# Altium schematic symbol library Logic_Programmable.SchLib: 9 symbols
Pins are listed as number, name and electrical type; pins without a type are passive.

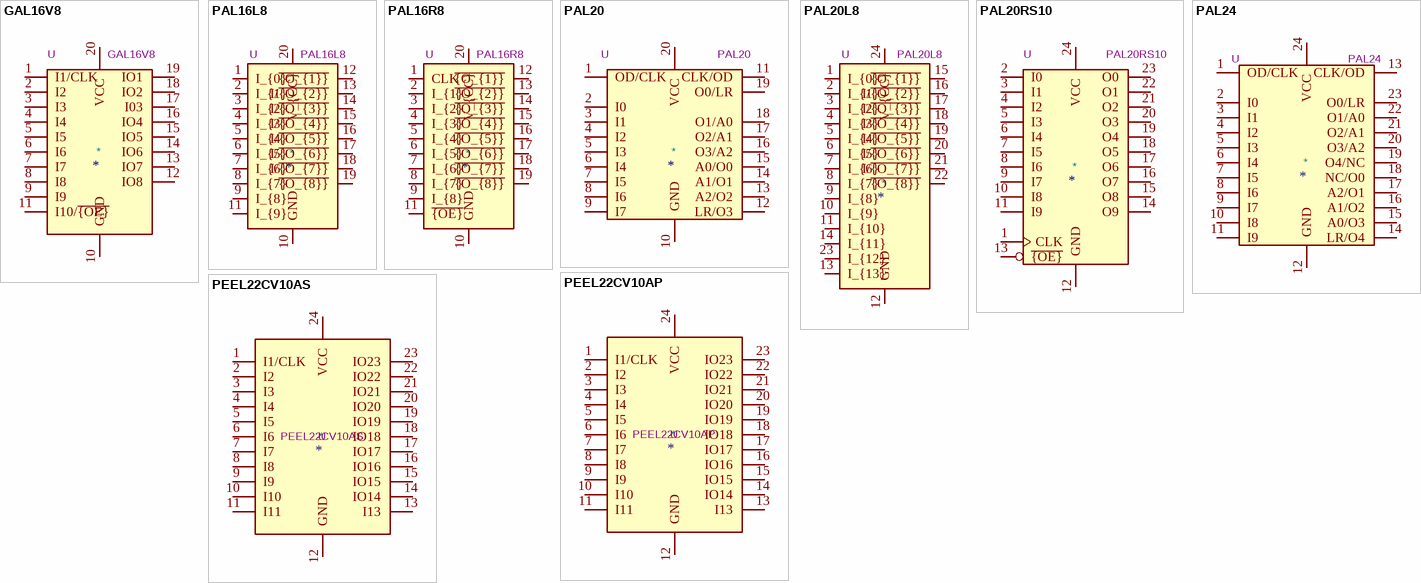
[diagram p0: symbols GAL16V8 to PEEL22CV10AS]

## GAL16V8
designator *  value GAL16V8  Reference: U
Programmable Logic Array, DIP-20/SOIC-20/PLCC-20; ki_keywords: GAL PLD 16V8; ki_fp_filters: DIP* PDIP* SOIC* SO* PLCC*; Description_: Programmable Logic Array, DIP-20/SOIC-20/PLCC-20
pins: 1 I1/CLK, 2 I2, 3 I3, 4 I4, 5 I5, 6 I6, 7 I7, 8 I8, 9 I9, 10 GND, 11 I10/~{{OE}}, 12 IO8, 13 IO7, 14 IO6, 15 IO5, 16 IO4, 17 I03, 18 IO2, 19 IO1, 20 VCC

## PAL16L8
designator *  value PAL16L8  Reference: U
Programmable Array Logic (PAL), Active-Low Combinatorial, DIP-20 / PLCC-20; ki_keywords: Obsolete Monolithic-Memories AMD PLD 16L8 PAL16L8-7PC PAL16L8-7JC PAL16L8D/2PC PAL16L8B-2CN PAL16L8ACN; ki_fp_filters: DIP*W7.62mm* *PLCC*; Datasheet: https://docs.rs-online.com/53eb/0900766b8002a354.pdf; Description_: Programmable Array Logic (PAL), Active-Low Combinatorial, DIP-20 / PLCC-20
pins: 1 I_{0}, 2 I_{1}, 3 I_{2}, 4 I_{3}, 5 I_{4}, 6 I_{5}, 7 I_{6}, 8 I_{7}, 9 I_{8}, 10 GND, 11 I_{9}, 12 ~{{O_{1}}}, 13 I/~{{O_{2}}}, 14 I/~{{O_{3}}}, 15 I/~{{O_{4}}}, 16 I/~{{O_{5}}}, 17 I/~{{O_{6}}}, 18 I/~{{O_{7}}}, 19 ~{{O_{8}}}, 20 V_{CC}

## PAL16R8
designator *  value PAL16R8  Reference: U
Programmable Array Logic (PAL), 8 Registered Outputs, DIP-20 / PLCC-20; ki_keywords: Obsolete Monolithic-Memories AMD PLD 16R8 PAL16R8-7PC PAL16R8-7JC PAL16R8D/2PC PAL16R8B-2CN PAL16R8ACN; ki_fp_filters: DIP*W7.62mm* *PLCC*; Datasheet: https://docs.rs-online.com/53eb/0900766b8002a354.pdf; Description_: Programmable Array Logic (PAL), 8 Registered Outputs, DIP-20 / PLCC-20
pins: 1 CLK, 2 I_{1}, 3 I_{2}, 4 I_{3}, 5 I_{4}, 6 I_{5}, 7 I_{6}, 8 I_{7}, 9 I_{8}, 10 GND, 11 ~{{OE}}, 12 ~{{O_{1}}}, 13 ~{{O_{2}}}, 14 ~{{O_{3}}}, 15 ~{{O_{4}}}, 16 ~{{O_{5}}}, 17 ~{{O_{6}}}, 18 ~{{O_{7}}}, 19 ~{{O_{8}}}, 20 V_{CC}

## PAL20
designator *  value PAL20  Reference: U
generic 20-pin Programmable Array Logic (PAL) device; ki_keywords: logic programmable PAL; Datasheet: ~; Description_: generic 20-pin Programmable Array Logic (PAL) device
pins: 1 OD/CLK, 2 I0, 3 I1, 4 I2, 5 I3, 6 I4, 7 I5, 8 I6, 9 I7, 10 GND, 11 CLK/OD, 12 LR/O3, 13 A2/O2, 14 A1/O1, 15 A0/O0, 16 O3/A2, 17 O2/A1, 18 O1/A0, 19 O0/LR, 20 VCC

## PAL20L8
designator *  value PAL20L8  Reference: U
Programmable Array Logic (PAL), Active-Low Combinatorial, DIP-24; ki_keywords: Obsolete Monolithic-Memories AMD PLD 20L8 PAL20L8-5PC PAL20L8-7PC PAL20L8-10PC PAL20L8-10/2PC PAL20L8B-2CNS; ki_fp_filters: DIP*W7.62mm*; Footprint: Package_DIP:DIP-24_W7.62mm; Datasheet: https://rocelec.widen.net/view/pdf/pn0qtf2whd/VANTS00076-1.pdf; Description_: Programmable Array Logic (PAL), Active-Low Combinatorial, DIP-24
pins: 1 I_{0}, 2 I_{1}, 3 I_{2}, 4 I_{3}, 5 I_{4}, 6 I_{5}, 7 I_{6}, 8 I_{7}, 9 I_{8}, 10 I_{9}, 11 I_{10}, 12 GND, 13 I_{13}, 14 I_{11}, 15 ~{{O_{1}}}, 16 I/~{{O_{2}}}, 17 I/~{{O_{3}}}, 18 I/~{{O_{4}}}, 19 I/~{{O_{5}}}, 20 I/~{{O_{6}}}, 21 I/~{{O_{7}}}, 22 ~{{O_{8}}}, 23 I_{12}, 24 V_{CC}

## PAL20RS10
designator *  value PAL20RS10  Reference: U
Programmable Logic Array, DIP-24 (Narrow); ki_keywords: PAL PLD 20RS10; ki_fp_filters: DIP* PDIP*; Description_: Programmable Logic Array, DIP-24 (Narrow)
pins: 1 CLK, 2 I0, 3 I1, 4 I2, 5 I3, 6 I4, 7 I5, 8 I6, 9 I7, 10 I8, 11 I9, 12 GND, 13 ~{{OE}}, 14 O9, 15 O8, 16 O7, 17 O6, 18 O5, 19 O4, 20 O3, 21 O2, 22 O1, 23 O0, 24 VCC

## PAL24
designator *  value PAL24  Reference: U
generic 24-pin Programmable Array Logic (PAL) device; ki_keywords: logic programmable PAL; Datasheet: ~; Description_: generic 24-pin Programmable Array Logic (PAL) device
pins: 1 OD/CLK, 2 I0, 3 I1, 4 I2, 5 I3, 6 I4, 7 I5, 8 I6, 9 I7, 10 I8, 11 I9, 12 GND, 13 CLK/OD, 14 LR/O4, 15 A0/O3, 16 A1/O2, 17 A2/O1, 18 NC/O0, 19 O4/NC, 20 O3/A2, 21 O2/A1, 22 O1/A0, 23 O0/LR, 24 VCC

## PEEL22CV10AP
designator *  value PEEL22CV10AP  Reference: U
Not in Production, CMOS Programmable Electrically Erasable Logic Device, DIP-24; ki_keywords: PLD; ki_fp_filters: DIP*W7.62mm*; Footprint: Package_DIP:DIP-24_W7.62mm; Datasheet: https://www.alldatasheet.com/datasheet-pdf/pdf/149182/ANACHIP/PEEL22CV10AP-15L.html; Description_: Not in Production, CMOS Programmable Electrically Erasable Logic Device, DIP-24
pins: 1 I1/CLK, 2 I2, 3 I3, 4 I4, 5 I5, 6 I6, 7 I7, 8 I8, 9 I9, 10 I10, 11 I11, 12 GND, 13 I13, 14 IO14, 15 IO15, 16 IO16, 17 IO17, 18 IO18, 19 IO19, 20 IO20, 21 IO21, 22 IO22, 23 IO23, 24 VCC

## PEEL22CV10AS
designator *  value PEEL22CV10AS  Reference: U
Not in Production, CMOS Programmable Electrically Erasable Logic Device, SOIC-24W; ki_keywords: PLD; ki_fp_filters: *SOIC*7.5x15.4mm*P1.27mm*; Footprint: Package_SO:SOIC-24W_7.5x15.4mm_P1.27mm; Datasheet: https://www.alldatasheet.com/datasheet-pdf/download/149182/ANACHIP/PEEL22CV10AP-15L.html; Description_: Not in Production, CMOS Programmable Electrically Erasable Logic Device, SOIC-24W
pins: 1 I1/CLK, 2 I2, 3 I3, 4 I4, 5 I5, 6 I6, 7 I7, 8 I8, 9 I9, 10 I10, 11 I11, 12 GND, 13 I13, 14 IO14, 15 IO15, 16 IO16, 17 IO17, 18 IO18, 19 IO19, 20 IO20, 21 IO21, 22 IO22, 23 IO23, 24 VCC